# Altium footprint library Capacitor - Electrolytic.PcbLib: 177 footprints (part 5 of 12)
Each footprint in its own frame and in the unit in brackets; x right, y up, seen from the top. Pads: shape width x height; smd on the part's side, far side on the other; paste and mask are expansions set on the pad; w line width, h text height; cw(c..) or ccw(c..) is an arc to the next point about the centre after c.
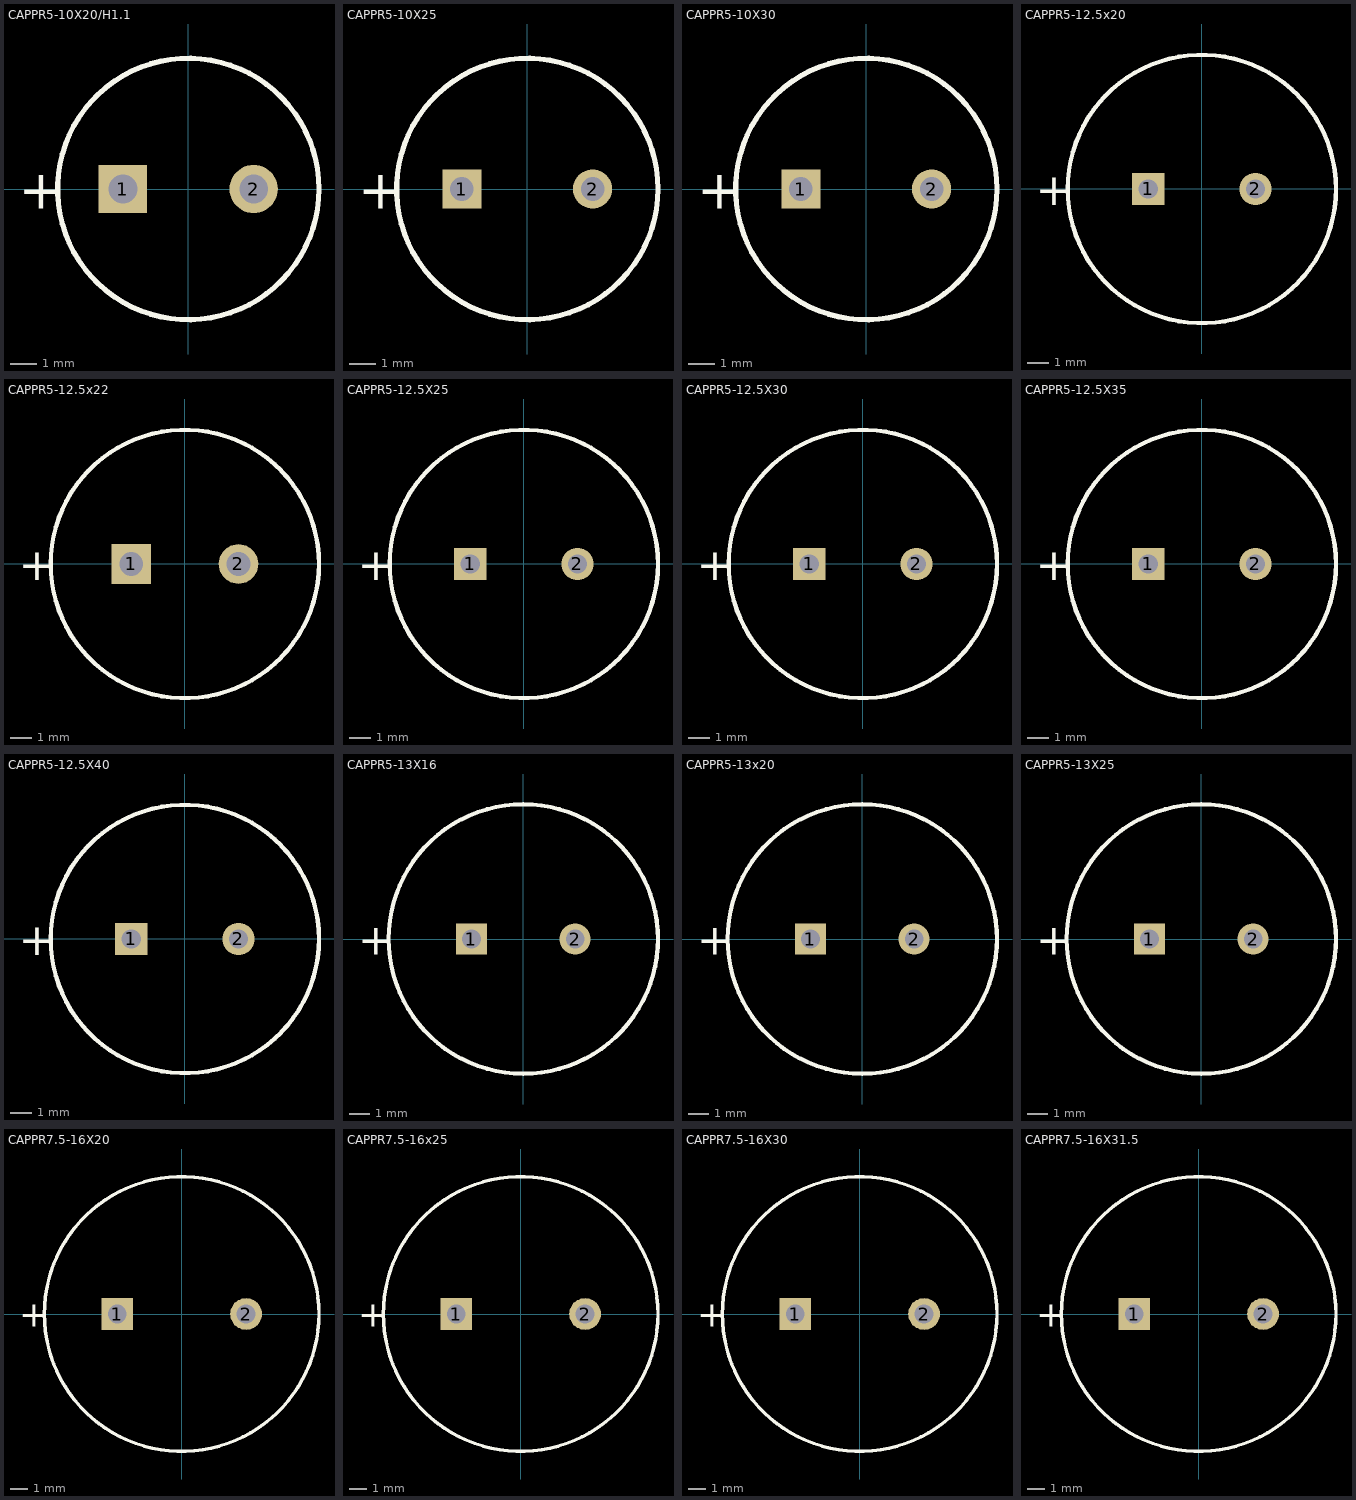
[diagram p4: the footprints below, top view; thin cyan lines are the x and y axes]

## CAPPR5-10X20/H1.1 [mm]
pads (2):
  rect 1.85x1.85 hole 1.1: 1(-2.5,0)
  round 1.85 hole 1.1: 2(2.5,0)
Top Overlay:
  circle w0.2: c0,0 r5
  text "+" at -6.475,-0.75 h1.5
3D body: height 20, standoff 0.5, extent -5.016,-5.086 5.005,4.934

## CAPPR5-10X25 [mm]
pads (2):
  rect 1.5x1.5 hole 0.9: 1(-2.5,0)
  round 1.5 hole 0.9: 2(2.5,0)
Top Overlay:
  circle w0.2: c0,0 r5
  text "+" at -6.475,-0.75 h1.5
3D body: height 25, standoff 0.5, extent -4.934,-5.005 5.086,5.016

## CAPPR5-10X30 [mm]
pads (2):
  rect 1.5x1.5 hole 0.9: 1(-2.5,0)
  round 1.5 hole 0.9: 2(2.5,0)
Top Overlay:
  circle w0.2: c0,0 r5
  text "+" at -6.475,-0.75 h1.5
3D body: height 30, standoff 0.5, extent -5.01,-5.01 5.01,5.01

## CAPPR5-12.5x20 [mm]
pads (2):
  rect 1.5x1.5 hole 0.9: 1(-2.5,0)
  round 1.5 hole 0.9: 2(2.5,0)
Top Overlay:
  circle w0.2: c0,0 r6.25
  text "+" at -7.725,-0.75 h1.5
3D body: height 20, standoff 0.5, extent -6.259,-6.259 6.259,6.259

## CAPPR5-12.5x22 [mm]
pads (2):
  rect 1.85x1.85 hole 1.1: 1(-2.5,0)
  round 1.85 hole 1.1: 2(2.5,0)
Top Overlay:
  circle w0.2: c0,0 r6.25
  text "+" at -7.725,-0.75 h1.5
3D body: height 22, standoff 0.5, extent -6.259,-6.259 6.259,6.259

## CAPPR5-12.5X25 [mm]
pads (2):
  rect 1.5x1.5 hole 0.9: 1(-2.5,0)
  round 1.5 hole 0.9: 2(2.5,0)
Top Overlay:
  circle w0.2: c0,0 r6.25
  text "+" at -7.725,-0.75 h1.5
3D body: height 12.5, standoff 0.5, extent -6.259,-6.259 6.259,6.259

## CAPPR5-12.5X30 [mm]
pads (2):
  rect 1.5x1.5 hole 0.9: 1(-2.5,0)
  round 1.5 hole 0.9: 2(2.5,0)
Top Overlay:
  circle w0.2: c0,0 r6.25
  text "+" at -7.725,-0.75 h1.5
3D body: height 30, standoff 0.5, extent -6.259,-6.259 6.259,6.259

## CAPPR5-12.5X35 [mm]
pads (2):
  rect 1.5x1.5 hole 0.9: 1(-2.5,0)
  round 1.5 hole 0.9: 2(2.5,0)
Top Overlay:
  circle w0.2: c0,0 r6.25
  text "+" at -7.725,-0.75 h1.5
3D body: height 35, standoff 0.5, extent -6.259,-6.259 6.259,6.259

## CAPPR5-12.5X40 [mm]
pads (2):
  rect 1.5x1.5 hole 0.9: 1(-2.5,0)
  round 1.5 hole 0.9: 2(2.5,0)
Top Overlay:
  circle w0.2: c0,0 r6.25
  text "+" at -7.725,-0.75 h1.5
3D body: height 40, standoff 0.5, extent -6.259,-6.259 6.259,6.259

## CAPPR5-13X16 [mm]
pads (2):
  rect 1.5x1.5 hole 0.9: 1(-2.5,0)
  round 1.5 hole 0.9: 2(2.5,0)
Top Overlay:
  circle w0.2: c0,0 r6.5
  text "+" at -7.975,-0.75 h1.5
3D body: height 16, standoff 0.5, extent -6.51,-6.51 6.51,6.51

## CAPPR5-13x20 [mm]
pads (2):
  rect 1.5x1.5 hole 0.9: 1(-2.5,0)
  round 1.5 hole 0.9: 2(2.5,0)
Top Overlay:
  circle w0.2: c0,0 r6.5
  text "+" at -7.975,-0.75 h1.5
3D body: height 20, standoff 0.5, extent -6.51,-6.51 6.51,6.51

## CAPPR5-13X25 [mm]
pads (2):
  rect 1.5x1.5 hole 0.9: 1(-2.5,0)
  round 1.5 hole 0.9: 2(2.5,0)
Top Overlay:
  circle w0.2: c0,0 r6.5
  text "+" at -7.975,-0.75 h1.5
3D body: height 25, standoff 0.5, extent -6.51,-6.51 6.51,6.51

## CAPPR7.5-16X20 [mm]
pads (2):
  rect 1.85x1.85 hole 1.1: 1(-3.75,0)
  round 1.85 hole 1.1: 2(3.75,0)
Top Overlay:
  circle w0.2: c0,0 r8
  text "+" at -9.475,-0.75 h1.5
3D body: height 20, standoff 0.5, extent -8.012,-8.012 8.012,8.012

## CAPPR7.5-16x25 [mm]
pads (2):
  rect 1.85x1.85 hole 1.1: 1(-3.75,0)
  round 1.85 hole 1.1: 2(3.75,0)
Top Overlay:
  circle w0.2: c0,0 r8
  text "+" at -9.475,-0.75 h1.5
3D body: height 25, standoff 0.5, extent -8.012,-8.012 8.012,8.012

## CAPPR7.5-16X30 [mm]
pads (2):
  rect 1.85x1.85 hole 1.1: 1(-3.75,0)
  round 1.85 hole 1.1: 2(3.75,0)
Top Overlay:
  circle w0.2: c0,0 r8
  text "+" at -9.475,-0.75 h1.5
3D body: height 30, standoff 0.5, extent -8.012,-8.012 8.012,8.012

## CAPPR7.5-16X31.5 [mm]
pads (2):
  rect 1.85x1.85 hole 1.1: 1(-3.75,0)
  round 1.85 hole 1.1: 2(3.75,0)
Top Overlay:
  circle w0.2: c0,0 r8
  text "+" at -9.475,-0.75 h1.5
3D body: height 31.5, standoff 0.5, extent -8.012,-8.012 8.012,8.012